# Altium footprint library HEF4543BT653.PcbLib: 1 footprints
Each footprint in its own frame and in the unit in brackets; x right, y up, seen from the top. Pads: shape width x height; smd on the part's side, far side on the other; paste and mask are expansions set on the pad; w line width, h text height; cw(c..) or ccw(c..) is an arc to the next point about the centre after c.
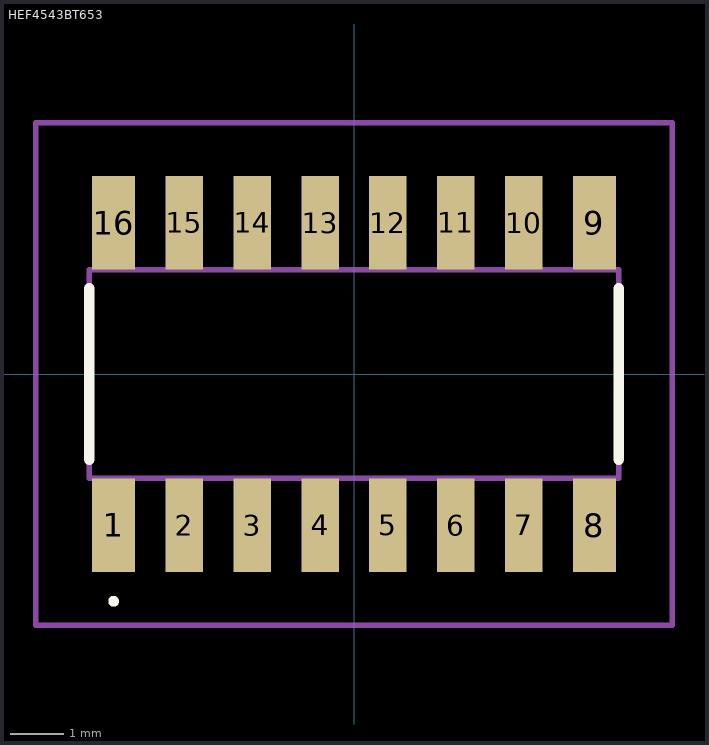
[diagram p0: the footprint, top view; thin cyan lines are the x and y axes]

## HEF4543BT653 [mm]
pads (16):
  rect 0.8x1.75 smd: 1(-4.495,-2.825) 8(4.495,-2.825) 9(4.495,2.825) 16(-4.495,2.825)
  rect 0.7x1.75 smd: 2(-3.175,-2.825) 3(-1.905,-2.825) 4(-0.635,-2.825) 5(0.635,-2.825) 6(1.905,-2.825) 7(3.175,-2.825) 10(3.175,2.825) 11(1.905,2.825) 12(0.635,2.825) 13(-0.635,2.825) 14(-1.905,2.825) 15(-3.175,2.825)
Top Overlay:
  lines w0.1: -4.495,-4.3 cw(c-4.495,-4.25) -4.495,-4.2 ; -4.495,-4.3 -4.495,-4.3 ; -4.495,-4.3 ccw(c-4.495,-4.25) -4.495,-4.2 ; -4.495,-4.2 -4.495,-4.2
  lines w0.2: -4.95,-1.6 -4.95,1.6 ; 4.95,-1.6 4.95,1.6
Mechanical 15:
  lines w0.1: -4.95,-1.95 4.95,-1.95 4.95,1.95 -4.95,1.95 -4.95,-1.95
Mechanical 20:
  lines w0.1: -5.95,-4.7 5.95,-4.7 5.95,4.7 -5.95,4.7 -5.95,-4.7